# Altium footprint library ICM模块.PcbLib: 9 footprints
Each footprint in its own frame and in the unit in brackets; x right, y up, seen from the top. Pads: shape width x height; smd on the part's side, far side on the other; paste and mask are expansions set on the pad; w line width, h text height; cw(c..) or ccw(c..) is an arc to the next point about the centre after c.
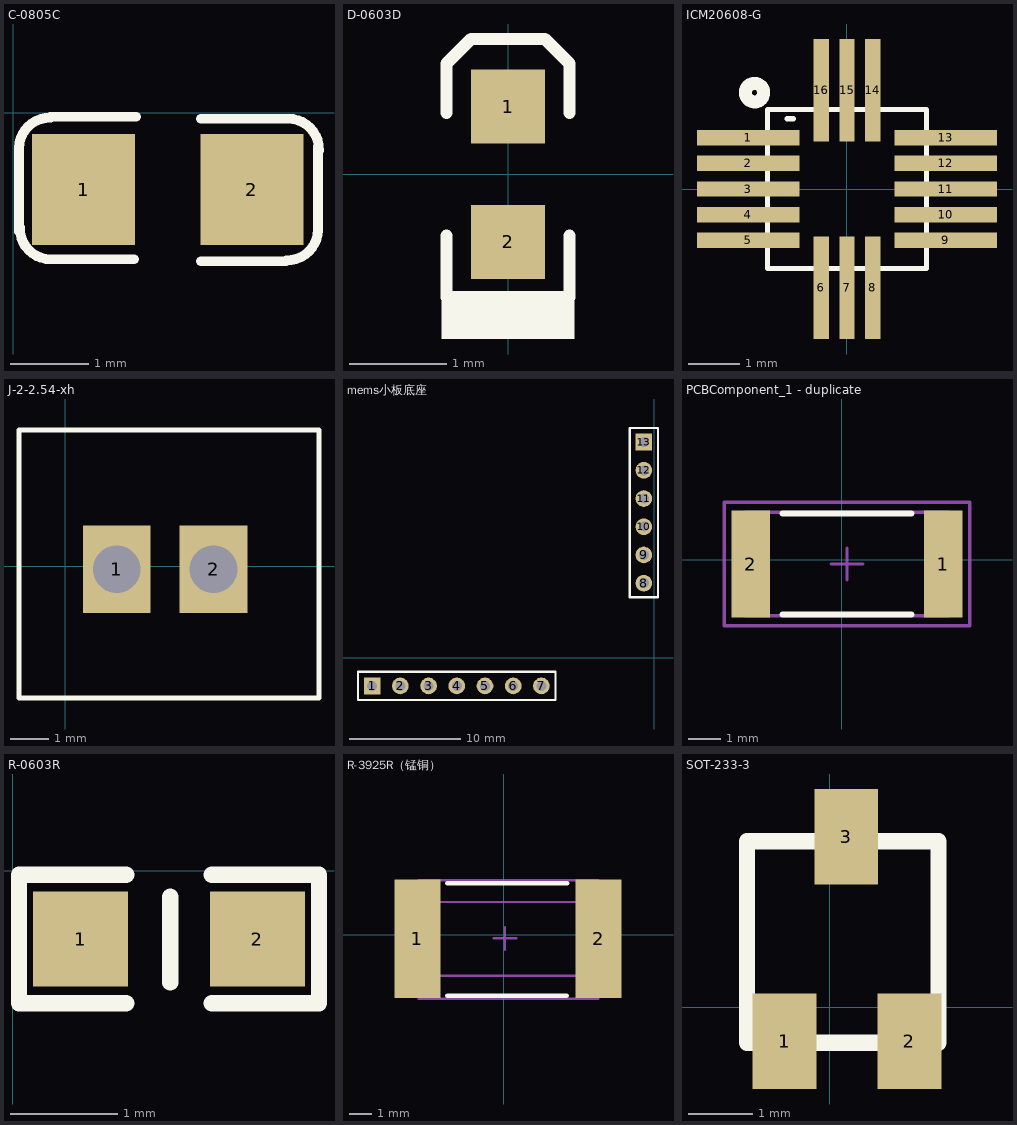
[diagram p0: the footprints below, top view; thin cyan lines are the x and y axes]

## C-0805C [mil]
pads (2):
  rect 52x56 smd: 1(35.6,-38.84) 2(120.6,-38.84)
Top Overlay:
  lines w5: 3,-60 3,-17 ; 3,-18 cw(c18.52,-18) 18.96,-2.49 ; 3.49,-58.04 ccw(c19,-58.48) 19,-74 ; 17,-74 61,-74 ; 19,-2 62,-2 ; 95,-75 138,-75 ; 95,-3 140,-3 ; 138.04,-74.51 ccw(c138.48,-59) 154,-59 ; 139,-3 cw(c139,-18.52) 154.51,-18.96 ; 154,-60 154,-17
3D body: height 37.4, standoff 0, extent 37.63,-61.62 116.37,-14.37

## D-0603D [mil]
pads (2):
  rect 30x30 smd: 1(0,27.5) 2(0,-27.5)
Top Overlay:
  rectangle: -27,-67 27,-50
  lines w5: -25,-25 -25,-50 25,-50 25,-25 ; -25,25 -25,45 -15,55 15,55 25,45 25,25
3D body: height 11.81, standoff 3.94, extent -15,-29 15,28
3D body: height 3.94, standoff 0, extent -15,-39 15,38
3D body: height 7.87, standoff 3.94, extent -10,-8 10,8

## ICM20608-G [mm]
pads (16):
  rect 2x0.3 smd: 1(-1.925,1) 2(-1.925,0.5) 3(-1.925,0) 4(-1.925,-0.5) 5(-1.925,-1) 9(1.925,-1) 10(1.925,-0.5) 11(1.925,0) 12(1.925,0.5) 13(1.925,1)
  rect 0.3x2 smd: 6(-0.5,-1.925) 7(0,-1.925) 8(0.5,-1.925) 14(0.5,1.925) 15(0,1.925) 16(-0.5,1.925)
Top Overlay:
  lines w0.1: -1.169,1.371 -1.042,1.371 ; -1.55,-1.55 -1.55,1.55 1.55,1.55 1.55,-1.55 -1.55,-1.55
  lines w0.254: -1.804,2.059 ccw(c-1.804,1.879) -1.76,2.053

## J-2-2.54-xh [mil]
pads (2):
  rect 70x90.75 hole 49.21: 1(53,-3) 2(153,-3)
Top Overlay:
  lines w5: -48,-136 -48,140.84 262,140.84 262,-136 -48,-136
3D body: height 280, standoff -129.45, extent -40.67,-127 250.67,113.16

## mems小板底座 [mm]
pads (13):
  rect 1.5x1.5 hole 0.9: 1(-25.4,-2.54) 13(-0.94,19.406)
  round 1.5 hole 0.9: 2(-22.86,-2.54) 3(-20.32,-2.54) 4(-17.78,-2.54) 5(-15.24,-2.54) 6(-12.7,-2.54) 7(-10.16,-2.54) 8(-0.94,6.706) 9(-0.94,9.246) 10(-0.94,11.786) 11(-0.94,14.326) 12(-0.94,16.866)
Top Overlay:
  lines w0.2: -26.67,-3.81 -8.89,-3.81 -8.89,-1.27 -26.67,-1.27 -26.67,-3.81 ; -2.21,5.436 -2.21,20.676 0.33,20.676 0.33,5.436 -2.21,5.436
3D body: height 10.1, standoff -1.5, extent -2.21,5.385 0.33,20.625
3D body: height 10.1, standoff -1.5, extent -26.645,-3.785 -8.865,-1.245

## PCBComponent_1 - duplicate [mm]
pads (2):
  rect 1.2x3.35 smd: 1(3.166,-0.132) 2(-2.834,-0.132)
Top Overlay:
  lines w0.2: -1.834,-1.707 2.166,-1.707 ; -1.834,1.443 2.166,1.443
Mechanical 13:
  lines w0.1: -3.009,-1.742 -3.009,1.478 3.341,1.478 3.341,-1.742 -3.009,-1.742
Mechanical 15:
  lines w0.1: -0.334,-0.132 0.666,-0.132 ; 0.166,-0.632 0.166,0.368 ; -3.659,-2.057 -3.659,1.793 3.991,1.793 3.991,-2.057 -3.659,-2.057
3D body: height 0.65, standoff 0, extent -3.009,-1.742 3.341,1.478

## R-0603R [mil]
pads (2):
  rect 35x35 smd: 1(25,-25) 2(90,-25)
Top Overlay:
  lines w6: 41.75,-48.62 2.38,-48.62 2.38,-1.38 41.75,-1.38 ; 58,-41 58,-9.5 ; 73.24,-48.62 112.61,-48.62 112.61,-1.38 73.24,-1.38
3D body: height 14.96, standoff 0, extent 24.5,-40.49 87.5,-9

## R-3925R（锰铜） [mm]
pads (2):
  rect 2x5.2 smd: 1(-3.785,-0.178) 2(4.14,-0.178)
Top Overlay:
  lines w0.2: -2.489,-2.667 2.743,-2.667 ; -2.489,2.261 2.769,2.261
Mechanical 13:
  lines w0.1: -3.785,-1.788 4.089,-1.788 4.089,1.432 -3.785,1.432 -3.785,-1.788
Mechanical 15:
  lines w0.1: -0.449,-0.152 0.551,-0.152 ; 0.051,-0.66 0.051,0.34 ; -3.734,-2.794 4.14,-2.794 4.14,2.388 -3.734,2.388 -3.734,-2.794
3D body: height 0.38, standoff -0.71, extent -3.518,-2.603 4.432,2.248

## SOT-233-3 [mm]
pads (3):
  rect 1x1.5 smd: 1(-0.711,-0.533) 2(1.245,-0.533) 3(0.254,2.667)
Top Overlay:
  lines w0.254: -1.3,-0.559 -1.3,2.6 1.702,2.6 1.702,-0.559 -1.3,-0.559
3D body: height 1.2, standoff 0, extent -1.246,-0.223 1.654,2.577